# Altium footprint library Diodes$.PcbLib: 39 footprints (part 3 of 3)
Each footprint in its own frame and in the unit in brackets; x right, y up, seen from the top. Pads: shape width x height; smd on the part's side, far side on the other; paste and mask are expansions set on the pad; w line width, h text height; cw(c..) or ccw(c..) is an arc to the next point about the centre after c.
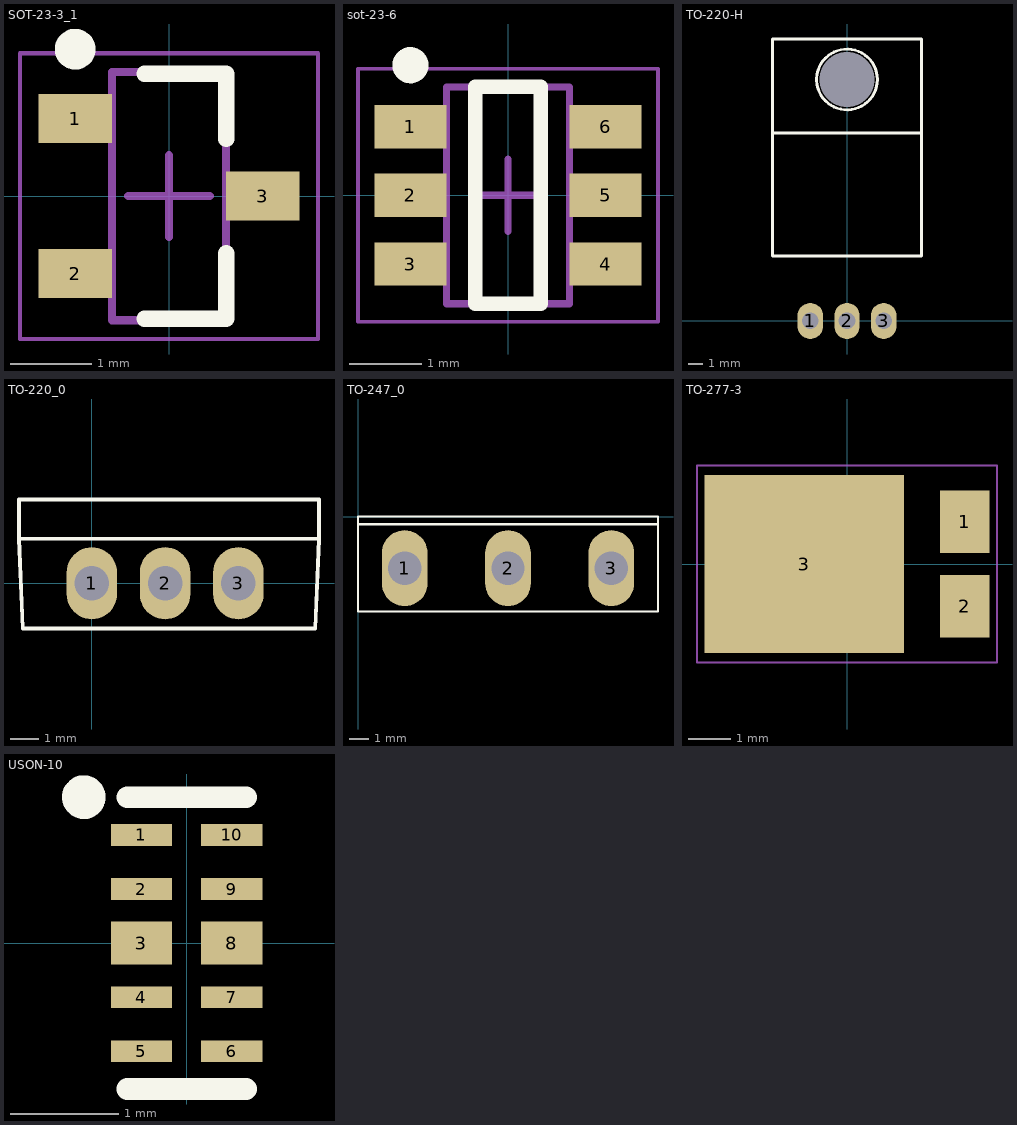
[diagram p2: the footprints below, top view; thin cyan lines are the x and y axes]

## SOT-23-3_1 [mm] "SOT-23-3 package"
height 1.1
pads (3):
  rect 0.9x0.6 smd: 1(-1.15,0.95) 2(-1.15,-0.95) 3(1.15,0)
Top Overlay:
  circle w0.25: c-1.15,1.8 r0.125
  lines w0.2: -0.3,-1.5 0.7,-1.5 0.7,-0.7 ; -0.3,1.5 0.7,1.5 0.7,0.7
Mechanical 13:
  lines w0.1: -0.7,-1.52 -0.7,1.52 0.7,1.52 0.7,-1.52 -0.7,-1.52
Mechanical 15:
  lines w0.05: -1.825,-1.75 -1.825,1.75 1.825,1.75 1.825,-1.75 -1.825,-1.75
  lines w0.1: -0.5,0 0.5,0 ; 0,-0.5 0,0.5
3D body "SOT23-3.stp": height 1.2, standoff 0.02, extent -1.418,-1.5 1.418,1.5

## sot-23-6 [mm] "SOT23, 6-Leads, Body 2.90x2.80mm, Pitch 0.95mm, IPC Medium Density"
height 1.1
pads (6):
  rect 1x0.6 smd: 1(-1.35,0.95) 2(-1.35,0) 3(-1.35,-0.95) 4(1.35,-0.95) 5(1.35,0) 6(1.35,0.95)
Top Overlay:
  circle w0.25: c-1.35,1.8 r0.125
  lines w0.2: -0.45,-1.5 0.45,-1.5 0.45,1.5 -0.45,1.5 -0.45,-1.5
Mechanical 13:
  lines w0.1: -0.85,-1.5 -0.85,1.5 0.85,1.5 0.85,-1.5 -0.85,-1.5
Mechanical 15:
  lines w0.05: -2.075,-1.75 -2.075,1.75 2.075,1.75 2.075,-1.75 -2.075,-1.75
  lines w0.1: -0.5,0 0.5,0 ; 0,-0.5 0,0.5
3D body "SOT23-6.stp": height 1.2, standoff 0.02, extent -1.418,-1.5 1.418,1.5

## TO-220-H [mm]
pads (4):
  round 0 hole 3.8 unplated: 0(0,16.7)
  oval 1.75x2.5 hole 1.15: 1(-2.54,0) 2(0,0) 3(2.54,0)
Top Overlay:
  circle w0.2: c0,16.7 r2.1
  lines w0.2: -5.15,13 5.15,13 ; -5.15,4.5 -5.15,19.5 5.15,19.5 5.15,4.5 -5.15,4.5
3D body: height 4.5, standoff 0, extent -5.15,4.5 5.15,13
3D body: height 1.25, standoff 0, extent -5.15,13 5.15,19.5

## TO-220_0 [mm]
pads (3):
  oval 1.75x2.5 hole 1.194: 1(0,0) 2(2.54,0) 3(5.08,0)
Top Overlay:
  lines w0.127: 7.874,1.524 7.747,-1.568 -2.397,-1.568 -2.525,1.539 ; -2.525,1.539 -2.525,2.9 7.874,2.9 7.874,1.539 -2.525,1.539
3D body "TO-220AB-FairA.stp": height 19.5, standoff -9.2, extent -2.785,-1.7 7.865,3.1

## TO-247_0 [mm] "TO-247 vertical"
pads (3):
  oval 2.4x4 hole 1.75: 1(2.46,-2.72) 2(7.9,-2.72) 3(13.34,-2.72)
Top Overlay:
  lines w0.127: 0,-0.4 15.8,-0.4 ; 0,-5 0,0 15.8,0 15.8,-5 0,-5
3D body "TO-247_factory.stp": height 24.8, standoff -17.9, extent 0,-5 15.6,0

## TO-277-3 [mm] "TO-277 3-pin"
pads (3):
  rect 1.15x1.45 smd: 1(2.75,0.985) 2(2.75,-0.985)
  rect 4.65x4.15 smd: 3(-1,0)
Mechanical 15:
  lines w0.05: -0.15,0 0.15,0 ; 0,-0.15 0,0.15 ; -3.5,-2.3 3.5,-2.3 3.5,2.3 -3.5,2.3 -3.5,-2.3

## USON-10 [mm] "USON-10"
pads (10):
  rect 0.565x0.2 smd mask+0.05: 1(-0.418,1) 2(-0.418,0.5) 4(-0.418,-0.5) 5(-0.418,-1) 6(0.418,-1) 7(0.418,-0.5) 9(0.418,0.5) 10(0.418,1)
  rect 0.565x0.4 smd mask+0.05: 3(-0.418,0) 8(0.418,0)
Top Overlay:
  circle w0.254: c-0.95,1.35 r0.075
  lines w0.2: -0.55,-1.35 0.55,-1.35 ; -0.55,1.35 0.55,1.35
3D body: height 0.55, standoff 0, extent -0.55,-1.3 0.55,1.3